# EAGLE library part 55917-28 (library con-molex-minifit)
DIP connector 2mm 28 way
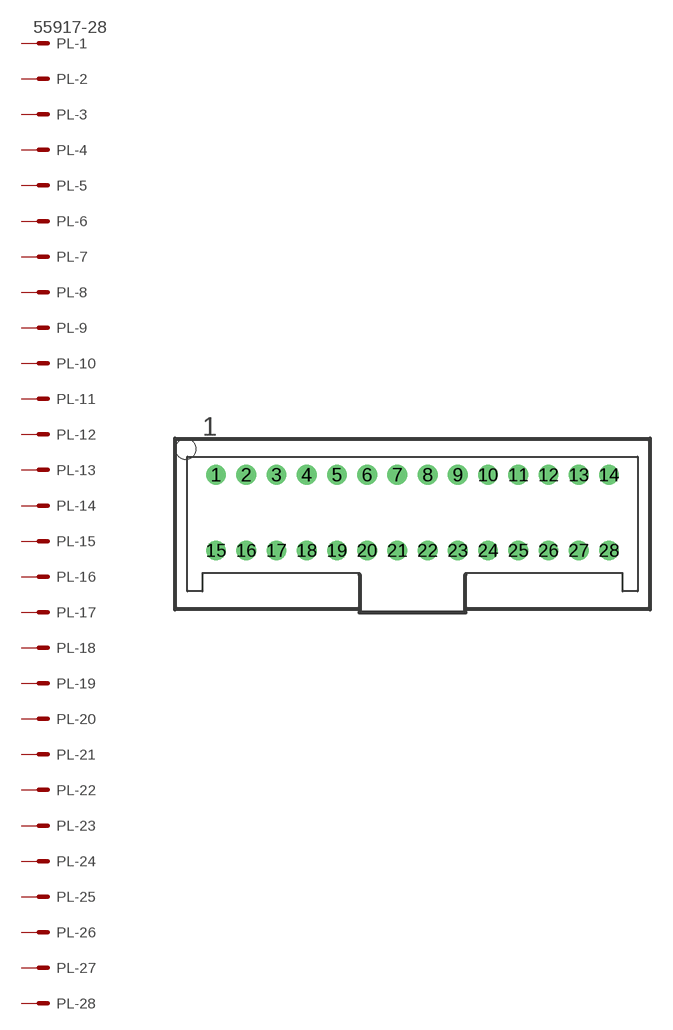
[diagram p20: symbol with the pads of 55917-28; footprint 55917-28]

Designator prefix PL; gates -1=MV -2=M -3=M -4=M -5=M -6=M -7=M -8=M -9=M -10=M -11=M -12=M -13=M -14=M -15=M -16=M -17=M -18=M -19=M -20=M -21=M -22=M -23=M -24=M -25=M -26=M -27=M -28=M

## 55917-28  [55917-28]
1  -1:S  pas
2  -2:S  pas
3  -3:S  pas
4  -4:S  pas
5  -5:S  pas
6  -6:S  pas
7  -7:S  pas
8  -8:S  pas
9  -9:S  pas
10  -10:S  pas
11  -11:S  pas
12  -12:S  pas
13  -13:S  pas
14  -14:S  pas
15  -15:S  pas
16  -16:S  pas
17  -17:S  pas
18  -18:S  pas
19  -19:S  pas
20  -20:S  pas
21  -21:S  pas
22  -22:S  pas
23  -23:S  pas
24  -24:S  pas
25  -25:S  pas
26  -26:S  pas
27  -27:S  pas
28  -28:S  pas

## Footprint 55917-28 (pad centres in mm)
DIP connector 2mm 28 way
drill 0.8 round: 1 -13,2.5; 2 -11,2.5; 3 -9,2.5; 4 -7,2.5; 5 -5,2.5; 6 -3,2.5; 7 -1,2.5; 8 1,2.5; 9 3,2.5; 10 5,2.5; 11 7,2.5; 12 9,2.5; 13 11,2.5; 14 13,2.5; 15 -13,-2.5; 16 -11,-2.5; 17 -9,-2.5; 18 -7,-2.5; 19 -5,-2.5; 20 -3,-2.5; 21 -1,-2.5; 22 1,-2.5; 23 3,-2.5; 24 5,-2.5; 25 7,-2.5; 26 9,-2.5; 27 11,-2.5; 28 13,-2.5
hole 1.35 at -15,4.2